# Altium schematic symbol library Schlib1.SchLib: 2 symbols
Pins are listed as number, name and electrical type; pins without a type are passive.

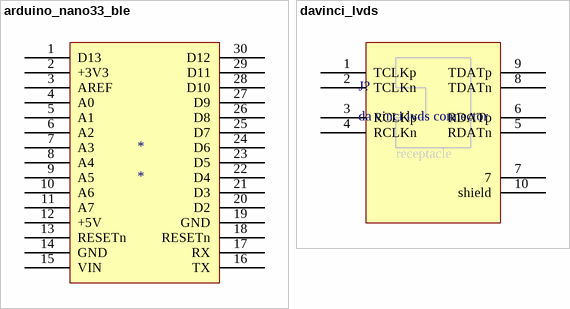
[diagram p0: symbols arduino_nano33_ble to davinci_lvds]

## arduino_nano33_ble
designator *
pins: 1 D13, 2 +3V3, 3 AREF, 4 A0, 5 A1, 6 A2, 7 A3, 8 A4, 9 A5, 10 A6, 11 A7, 12 +5V, 13 RESETn, 14 GND, 15 VIN, 16 TX, 17 RX, 18 RESETn, 19 GND, 20 D2, 21 D3, 22 D4, 23 D5, 24 D6, 25 D7, 26 D8, 27 D9, 28 D10, 29 D11, 30 D12

## davinci_lvds
designator J?, comment da vinci lvds connector
footprint 1394b
pins: 1 TCLKp, 2 TCLKn, 3 RCLKp, 4 RCLKn, 5 RDATn, 6 RDATp, 7, 8 TDATn, 9 TDATp, 10 shield
text: receptacle